# Altium schematic symbol library Mezeq_Passives.SchLib: 6 symbols
Pins are listed as number, name and electrical type; pins without a type are passive.

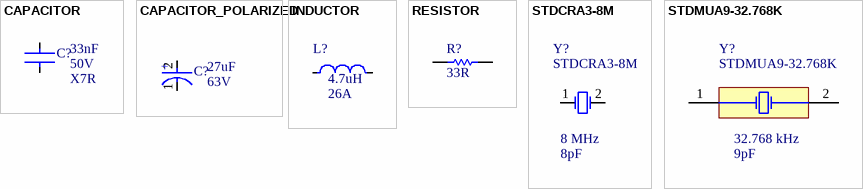
[diagram p0: symbols CAPACITOR to STDMUA9-32.768K]

## CAPACITOR
designator C?, comment Dielectric: X7R  Voltage Rating: 50V  (hidden comment: 33nF)
Generic non-polarized capacitor schematic symbol; Manufacturer 1: KEMET; Manufacturer Part Number 1: C0603C333K5RACTU; Tolerance: 10%; Case/Package: 0603; Supplier 1: Digikey; Supplier Part Number 1: 399-C0603C333K5RACTUCT-ND; Value: 33nF
footprint C0603 (Chip Capacitor, 2-Leads, Body 1.60x0.80mm)
pins: 1, 2

## CAPACITOR_POLARIZED
designator C?, comment Voltage Rating: 63V  (hidden comment: 27uF)
Generic polarized capacitor schematic symbol; Manufacturer 1: KEMET; Manufacturer Part Number 1: A768KE276M1JLAE054; Tolerance: 20%; Case/Package: Radial; Supplier 1: Digikey; Supplier Part Number 1: 399-A768KE276M1JLAE054CT-ND; Value: 27uF
footprint A768KE276M1JLAE054 (Radial, Can - SMD  0.315" Dia (8.00mm) 0.327" L x 0.327" W (8.30mm x 8.30mm))
pins: 1 C, 2 A
text: +

## INDUCTOR
designator L?, comment Current Rating: 26A  (hidden comment: 4.7uH)
Generic inductor schematic symbol; Manufacturer 1: Bourns Inc.; Manufacturer Part Number 1: SRP1770CC-4R7M; Inductance Tolerance: 20%; DC Resistance (DCR): 4.8mohm; Supplier 1: Digikey; Supplier Part Number 1: 118-SRP1770CC-4R7MCT-ND; Value: 4.7uH
footprint SRP1770CC-4R7M
pins: 1, 2

## RESISTOR
designator R?, comment 33R
Generic resistor schematic symbol; Manufacturer 1: YAGEO; Manufacturer Part Number 1: RC0603JR-0733RL; Supplier 1: Digikey; Supplier Part Number 1: 311-33GRCT-ND; Value: 33R
footprint R0603 (Chip Resistor; Body 1.6 x 0.9 mm (LxW typ))
pins: 1, 2
1 alternate drawing of the same symbol

## STDCRA3-8M
designator Y?  value 8 MHz  Load Capacitance: 8pF
8 MHz ±50ppm Crystal 8pF 500 Ohms 2-SMD, No Lead; Manufacturer 1: NDK (NIHON DEMPA KOGYO CO., LTD); Case/Package: SMD/SMT; Manufacturer Part Number 1: STDCRA3-8M; Supplier 1: Digikey; Supplier Part Number 1: 644-STDCRA3-8MDKR-ND; Tolerance: 50ppm
footprint NDK-NX3225GD-8MHZ-STD-CRA-3_V (SMD, 2-Leads, Body 3.2x2.5mm)
pins: 1, 2

## STDMUA9-32.768K
designator Y?  value 32.768 kHz  Load Capacitance: 9pF
32.768 kHz ±20ppm Crystal 9pF 70 kOhms 2-SMD, No Lead; Manufacturer 1: NDK (NIHON DEMPA KOGYO CO., LTD); Supplier 1: Digikey; Manufacturer Part Number 1: STDMUA9-32.768K; Supplier Part Number 1: 644-STDMUA9-32.768KDKR-ND; Case/Package: 2-SMD, No Lead; Tolerance: 20ppm
footprint STDMUA9-32.768K
pins: 1 XTAL1, 2 XTAL2